# Altium footprint library Altera.PcbLib: 6 footprints (part 1 of 6)
Each footprint in its own frame and in the unit in brackets; x right, y up, seen from the top. Pads: shape width x height; smd on the part's side, far side on the other; paste and mask are expansions set on the pad; w line width, h text height; cw(c..) or ccw(c..) is an arc to the next point about the centre after c.
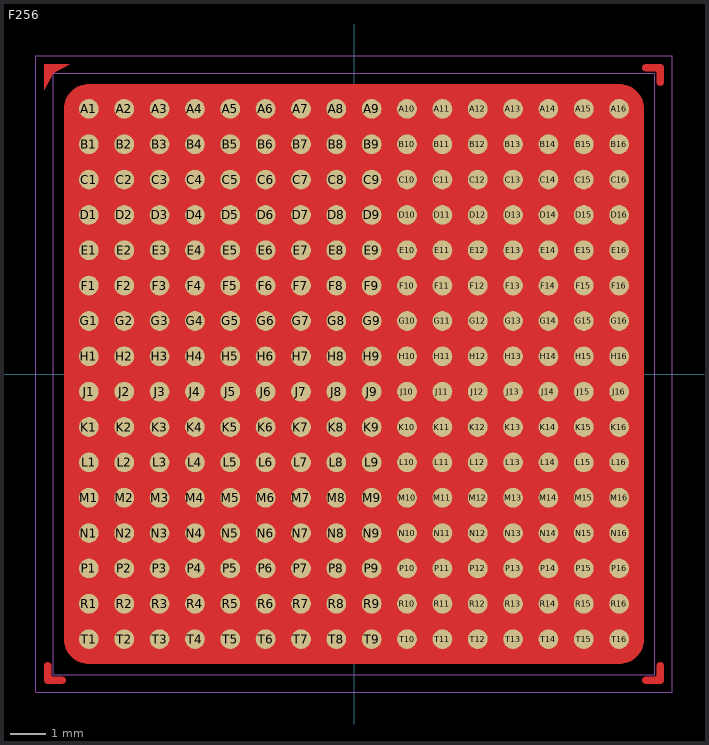
[diagram p0: the footprint, top view; thin cyan lines are the x and y axes]

## F256 [mil]
pads (256):
  round 22 smd mask+2: A1(-295.28,295.28) A2(-255.91,295.28) A3(-216.54,295.28) A4(-177.17,295.28) A5(-137.8,295.28) A6(-98.43,295.28) A7(-59.06,295.28) A8(-19.68,295.28) A9(19.69,295.28) A10(59.06,295.28) A11(98.43,295.28) A12(137.8,295.28) A13(177.17,295.28) A14(216.54,295.28) A15(255.91,295.28) A16(295.28,295.28) B1(-295.28,255.91) B2(-255.91,255.91) B3(-216.54,255.91) B4(-177.17,255.91) B5(-137.8,255.91) B6(-98.43,255.91) B7(-59.06,255.91) B8(-19.68,255.91) B9(19.69,255.91) B10(59.06,255.91) B11(98.43,255.91) B12(137.8,255.91) B13(177.17,255.91) B14(216.54,255.91) B15(255.91,255.91) B16(295.28,255.91) C1(-295.28,216.54) C2(-255.91,216.54) C3(-216.54,216.54) C4(-177.17,216.54) C5(-137.8,216.54) C6(-98.43,216.54) C7(-59.06,216.54) C8(-19.68,216.54) C9(19.69,216.54) C10(59.06,216.54) C11(98.43,216.54) C12(137.8,216.54) C13(177.17,216.54) C14(216.54,216.54) C15(255.91,216.54) C16(295.28,216.54) D1(-295.28,177.17) D2(-255.91,177.17) D3(-216.54,177.17) D4(-177.17,177.17) D5(-137.8,177.17) D6(-98.43,177.17) D7(-59.06,177.17) D8(-19.68,177.17) D9(19.69,177.17) D10(59.06,177.17) D11(98.43,177.17) D12(137.8,177.17) D13(177.17,177.17) D14(216.54,177.17) D15(255.91,177.17) D16(295.28,177.17) E1(-295.28,137.8) E2(-255.91,137.8) E3(-216.54,137.8) E4(-177.17,137.8) E5(-137.8,137.8) E6(-98.43,137.8) E7(-59.06,137.8) E8(-19.68,137.8) E9(19.69,137.8) E10(59.06,137.8) E11(98.43,137.8) E12(137.8,137.8) E13(177.17,137.8) E14(216.54,137.8) E15(255.91,137.8) E16(295.28,137.8) F1(-295.28,98.43) F2(-255.91,98.43) F3(-216.54,98.43) F4(-177.17,98.43) F5(-137.8,98.43) F6(-98.43,98.43) F7(-59.06,98.43) F8(-19.68,98.43) F9(19.69,98.43) F10(59.06,98.43) F11(98.43,98.43) F12(137.8,98.43) F13(177.17,98.43) F14(216.54,98.43) F15(255.91,98.43) F16(295.28,98.43) G1(-295.28,59.06) G2(-255.91,59.06) G3(-216.54,59.06) G4(-177.17,59.06) G5(-137.8,59.06) G6(-98.43,59.06) G7(-59.06,59.06) G8(-19.68,59.06) G9(19.69,59.06) G10(59.06,59.06) G11(98.43,59.06) G12(137.8,59.06) G13(177.17,59.06) G14(216.54,59.06) G15(255.91,59.06) G16(295.28,59.06) H1(-295.28,19.69) H2(-255.91,19.69) H3(-216.54,19.69) H4(-177.17,19.69) H5(-137.8,19.69) H6(-98.43,19.69) H7(-59.06,19.69) H8(-19.68,19.69) H9(19.69,19.69) H10(59.06,19.69) H11(98.43,19.69) H12(137.8,19.69) H13(177.17,19.69) H14(216.54,19.69) H15(255.91,19.69) H16(295.28,19.69) J1(-295.28,-19.68) J2(-255.91,-19.68) J3(-216.54,-19.68) J4(-177.17,-19.68) J5(-137.8,-19.68) J6(-98.43,-19.68) J7(-59.06,-19.68) J8(-19.68,-19.68) J9(19.69,-19.68) J10(59.06,-19.68) J11(98.43,-19.68) J12(137.8,-19.68) J13(177.17,-19.68) J14(216.54,-19.68) J15(255.91,-19.68) J16(295.28,-19.68) K1(-295.28,-59.06) K2(-255.91,-59.06) K3(-216.54,-59.06) K4(-177.17,-59.06) K5(-137.8,-59.06) K6(-98.43,-59.06) K7(-59.06,-59.06) K8(-19.68,-59.06) K9(19.69,-59.06) K10(59.06,-59.06) K11(98.43,-59.06) K12(137.8,-59.06) K13(177.17,-59.06) K14(216.54,-59.06) K15(255.91,-59.06) K16(295.28,-59.06) L1(-295.28,-98.43) L2(-255.91,-98.43) L3(-216.54,-98.43) L4(-177.17,-98.43) L5(-137.8,-98.43) L6(-98.43,-98.43) L7(-59.06,-98.43) L8(-19.68,-98.43) L9(19.69,-98.43) L10(59.06,-98.43) L11(98.43,-98.43) L12(137.8,-98.43) L13(177.17,-98.43) L14(216.54,-98.43) L15(255.91,-98.43) L16(295.28,-98.43) M1(-295.28,-137.8) M2(-255.91,-137.8) M3(-216.54,-137.8) M4(-177.17,-137.8) M5(-137.8,-137.8) M6(-98.43,-137.8) M7(-59.06,-137.8) M8(-19.68,-137.8) M9(19.69,-137.8) M10(59.06,-137.8) M11(98.43,-137.8) M12(137.8,-137.8) M13(177.17,-137.8) M14(216.54,-137.8) M15(255.91,-137.8) M16(295.28,-137.8) N1(-295.28,-177.17) N2(-255.91,-177.17) N3(-216.54,-177.17) N4(-177.17,-177.17) N5(-137.8,-177.17) N6(-98.43,-177.17) N7(-59.06,-177.17) N8(-19.68,-177.17) N9(19.69,-177.17) N10(59.06,-177.17) N11(98.43,-177.17) N12(137.8,-177.17) N13(177.17,-177.17) N14(216.54,-177.17) N15(255.91,-177.17) N16(295.28,-177.17) P1(-295.28,-216.54) P2(-255.91,-216.54) P3(-216.54,-216.54) P4(-177.17,-216.54) P5(-137.8,-216.54) P6(-98.43,-216.54) P7(-59.06,-216.54) P8(-19.68,-216.54) P9(19.69,-216.54) P10(59.06,-216.54) P11(98.43,-216.54) P12(137.8,-216.54) P13(177.17,-216.54) P14(216.54,-216.54) P15(255.91,-216.54) P16(295.28,-216.54) R1(-295.28,-255.91) R2(-255.91,-255.91) R3(-216.54,-255.91) R4(-177.17,-255.91) R5(-137.8,-255.91) R6(-98.43,-255.91) R7(-59.06,-255.91) R8(-19.68,-255.91) R9(19.69,-255.91) R10(59.06,-255.91) R11(98.43,-255.91) R12(137.8,-255.91) R13(177.17,-255.91) R14(216.54,-255.91) R15(255.91,-255.91) R16(295.28,-255.91) T1(-295.28,-295.28) T2(-255.91,-295.28) T3(-216.54,-295.28) T4(-177.17,-295.28) T5(-137.8,-295.28) T6(-98.43,-295.28) T7(-59.06,-295.28) T8(-19.68,-295.28) T9(19.69,-295.28) T10(59.06,-295.28) T11(98.43,-295.28) T12(137.8,-295.28) T13(177.17,-295.28) T14(216.54,-295.28) T15(255.91,-295.28) T16(295.28,-295.28)
Top Layer:
  region: 337.11,325.11 337.11,324.31 337.72,322.84 338.84,321.72 340.31,321.11 341.11,321.11 341.9,321.11 343.38,321.72 344.5,322.84 345.11,324.31 345.11,325.11 345.11,341.11 345.11,341.91 344.5,343.38 343.38,344.5 341.9,345.11 341.11,345.11 325.11,345.11 324.31,345.11 322.84,344.5 321.72,343.38 321.11,341.91 321.11,341.11 321.11,340.31 321.72,338.84 322.84,337.72 324.31,337.11 325.11,337.11 335.11,337.11 335.5,337.07 336.22,336.77 336.77,336.22 337.07,335.5 337.11,335.11
  region: 325.11,-337.11 324.31,-337.11 322.84,-337.72 321.72,-338.84 321.11,-340.31 321.11,-341.11 321.11,-341.91 321.72,-343.38 322.84,-344.5 324.31,-345.11 325.11,-345.11 341.11,-345.11 341.91,-345.11 343.38,-344.5 344.5,-343.38 345.11,-341.91 345.11,-341.11 345.11,-325.11 345.11,-324.31 344.5,-322.84 343.38,-321.72 341.91,-321.11 341.11,-321.11 340.31,-321.11 338.84,-321.72 337.72,-322.84 337.11,-324.31 337.11,-325.11 337.11,-335.11 337.07,-335.5 336.77,-336.22 336.22,-336.77 335.5,-337.07 335.11,-337.11
  region: -337.11,-325.11 -337.11,-324.31 -337.72,-322.84 -338.84,-321.72 -340.31,-321.11 -341.11,-321.11 -341.9,-321.11 -343.38,-321.72 -344.5,-322.84 -345.11,-324.31 -345.11,-325.11 -345.11,-341.11 -345.11,-341.91 -344.5,-343.38 -343.38,-344.5 -341.9,-345.11 -341.11,-345.11 -325.11,-345.11 -324.31,-345.11 -322.84,-344.5 -321.72,-343.38 -321.11,-341.91 -321.11,-341.11 -321.11,-340.31 -321.72,-338.84 -322.84,-337.72 -324.31,-337.11 -325.11,-337.11 -335.11,-337.11 -335.5,-337.07 -336.22,-336.77 -336.77,-336.22 -337.07,-335.5 -337.11,-335.11
  pour cut-out: -322.83,295.28 -322.83,-295.28 -322.83,-297.99 -321.78,-303.31 -319.7,-308.33 -316.68,-312.84 -312.84,-316.68 -308.33,-319.7 -303.31,-321.78 -297.99,-322.83 -295.28,-322.83 295.28,-322.84 297.99,-322.84 303.31,-321.78 308.33,-319.7 312.84,-316.68 316.68,-312.84 319.7,-308.33 321.78,-303.31 322.83,-297.99 322.83,-295.28 322.84,295.28 322.84,297.99 321.78,303.31 319.7,308.33 316.68,312.84 312.84,316.68 308.33,319.7 303.32,321.78 297.99,322.83 295.28,322.83 -295.28,322.83 -297.99,322.83 -303.31,321.78 -308.33,319.7 -312.84,316.68 -316.68,312.84 -319.7,308.33 -321.78,303.31 -322.83,297.99
  region: -345.11,345.11 -345.11,316.57 -334.65,334.65 -316.57,345.11
Top Courtyard:
  lines w1: -354.33,-354.33 354.33,-354.33 354.33,354.33 -354.33,354.33 -354.33,-354.33
Top Component Outline:
  lines w1: -334.65,-334.65 334.65,-334.65 334.65,334.65 -334.65,334.65 -334.65,-334.65
3D body: height 20.81, standoff -2.81, extent -267.63,-307.24 -244.18,-283.62
3D body: height 20.81, standoff -2.81, extent -267.63,-267.87 -244.18,-244.25
3D body: height 20.81, standoff -2.81, extent -307,-267.87 -283.55,-244.25
3D body: height 20.81, standoff -2.81, extent -307,-307.24 -283.55,-283.62
3D body: height 20.81, standoff -2.81, extent -267.63,-228.5 -244.18,-204.88
3D body: height 20.81, standoff -2.81, extent -267.63,-189.13 -244.18,-165.51
3D body: height 20.81, standoff -2.81, extent -307,-189.13 -283.55,-165.51
3D body: height 20.81, standoff -2.81, extent -307,-228.5 -283.55,-204.88
3D body: height 20.81, standoff -2.81, extent -267.63,-149.76 -244.18,-126.14
3D body: height 20.81, standoff -2.81, extent -267.63,-110.39 -244.18,-86.77
3D body: height 20.81, standoff -2.81, extent -307,-110.39 -283.55,-86.77
3D body: height 20.81, standoff -2.81, extent -307,-149.76 -283.55,-126.14
3D body: height 20.81, standoff -2.81, extent -267.63,-71.02 -244.18,-47.4
3D body: height 20.81, standoff -2.81, extent -267.63,-31.65 -244.18,-8.03
3D body: height 20.81, standoff -2.81, extent -307,-31.65 -283.55,-8.03
3D body: height 20.81, standoff -2.81, extent -307,-71.02 -283.55,-47.4
3D body: height 20.81, standoff -2.81, extent -267.63,7.72 -244.18,31.34
3D body: height 20.81, standoff -2.81, extent -267.63,47.09 -244.18,70.71
3D body: height 20.81, standoff -2.81, extent -307,47.09 -283.55,70.71
3D body: height 20.81, standoff -2.81, extent -307,7.72 -283.55,31.34
3D body: height 20.81, standoff -2.81, extent -267.63,86.46 -244.18,110.08
3D body: height 20.81, standoff -2.81, extent -267.63,125.83 -244.18,149.45
3D body: height 20.81, standoff -2.81, extent -307,125.83 -283.55,149.45
3D body: height 20.81, standoff -2.81, extent -307,86.46 -283.55,110.08
3D body: height 20.81, standoff -2.81, extent -267.63,204.57 -244.18,228.19
3D body: height 20.81, standoff -2.81, extent -267.63,165.2 -244.18,188.82
3D body: height 20.81, standoff -2.81, extent -307,165.2 -283.55,188.82
3D body: height 20.81, standoff -2.81, extent -307,204.57 -283.55,228.19
3D body: height 20.81, standoff -2.81, extent -267.63,283.31 -244.18,306.93
3D body: height 20.81, standoff -2.81, extent -267.63,243.94 -244.18,267.56
3D body: height 20.81, standoff -2.81, extent -307,243.94 -283.55,267.56
3D body: height 20.81, standoff -2.81, extent -307,283.31 -283.55,306.93
3D body: height 20.81, standoff -2.81, extent -188.89,-307.24 -165.44,-283.62
3D body: height 20.81, standoff -2.81, extent -188.89,-267.87 -165.44,-244.25
3D body: height 20.81, standoff -2.81, extent -228.26,-307.24 -204.81,-283.62
3D body: height 20.81, standoff -2.81, extent -228.26,-267.87 -204.81,-244.25
3D body: height 20.81, standoff -2.81, extent -188.89,-228.5 -165.44,-204.88
3D body: height 20.81, standoff -2.81, extent -188.89,-189.13 -165.44,-165.51
3D body: height 20.81, standoff -2.81, extent -228.26,-228.5 -204.81,-204.88
3D body: height 20.81, standoff -2.81, extent -228.26,-189.13 -204.81,-165.51
3D body: height 20.81, standoff -2.81, extent -188.89,-149.76 -165.44,-126.14
3D body: height 20.81, standoff -2.81, extent -188.89,-110.39 -165.44,-86.77
3D body: height 20.81, standoff -2.81, extent -228.26,-149.76 -204.81,-126.14
3D body: height 20.81, standoff -2.81, extent -228.26,-110.39 -204.81,-86.77
3D body: height 20.81, standoff -2.81, extent -188.89,-71.02 -165.44,-47.4
3D body: height 20.81, standoff -2.81, extent -188.89,-31.65 -165.44,-8.03
3D body: height 20.81, standoff -2.81, extent -228.26,-71.02 -204.81,-47.4
3D body: height 20.81, standoff -2.81, extent -228.26,-31.65 -204.81,-8.03
3D body: height 20.81, standoff -2.81, extent -188.89,7.72 -165.44,31.34
3D body: height 20.81, standoff -2.81, extent -188.89,47.09 -165.44,70.71
3D body: height 20.81, standoff -2.81, extent -228.26,7.72 -204.81,31.34
3D body: height 20.81, standoff -2.81, extent -228.26,47.09 -204.81,70.71
3D body: height 20.81, standoff -2.81, extent -188.89,86.46 -165.44,110.08
3D body: height 20.81, standoff -2.81, extent -188.89,125.83 -165.44,149.45
3D body: height 20.81, standoff -2.81, extent -228.26,86.46 -204.81,110.08
3D body: height 20.81, standoff -2.81, extent -228.26,125.83 -204.81,149.45
3D body: height 20.81, standoff -2.81, extent -188.89,204.57 -165.44,228.19
3D body: height 20.81, standoff -2.81, extent -188.89,165.2 -165.44,188.82
3D body: height 20.81, standoff -2.81, extent -228.26,204.57 -204.81,228.19
3D body: height 20.81, standoff -2.81, extent -228.26,165.2 -204.81,188.82
3D body: height 20.81, standoff -2.81, extent -188.89,283.31 -165.44,306.93
3D body: height 20.81, standoff -2.81, extent -188.89,243.94 -165.44,267.56
3D body: height 20.81, standoff -2.81, extent -228.26,283.31 -204.81,306.93
3D body: height 20.81, standoff -2.81, extent -228.26,243.94 -204.81,267.56
3D body: height 20.81, standoff -2.81, extent -110.15,-307.24 -86.7,-283.62
3D body: height 20.81, standoff -2.81, extent -110.15,-267.87 -86.7,-244.25
3D body: height 20.81, standoff -2.81, extent -149.52,-307.24 -126.07,-283.62
3D body: height 20.81, standoff -2.81, extent -149.52,-267.87 -126.07,-244.25
3D body: height 20.81, standoff -2.81, extent -110.15,-228.5 -86.7,-204.88
3D body: height 20.81, standoff -2.81, extent -110.15,-189.13 -86.7,-165.51
3D body: height 20.81, standoff -2.81, extent -149.52,-228.5 -126.07,-204.88
3D body: height 20.81, standoff -2.81, extent -149.52,-189.13 -126.07,-165.51
3D body: height 20.81, standoff -2.81, extent -110.15,-149.76 -86.7,-126.14
3D body: height 20.81, standoff -2.81, extent -110.15,-110.39 -86.7,-86.77
3D body: height 20.81, standoff -2.81, extent -149.52,-149.76 -126.07,-126.14
3D body: height 20.81, standoff -2.81, extent -149.52,-110.39 -126.07,-86.77
3D body: height 20.81, standoff -2.81, extent -110.15,-71.02 -86.7,-47.4
3D body: height 20.81, standoff -2.81, extent -110.15,-31.65 -86.7,-8.03
3D body: height 20.81, standoff -2.81, extent -149.52,-71.02 -126.07,-47.4
3D body: height 20.81, standoff -2.81, extent -149.52,-31.65 -126.07,-8.03
3D body: height 20.81, standoff -2.81, extent -110.15,7.72 -86.7,31.34
3D body: height 20.81, standoff -2.81, extent -110.15,47.09 -86.7,70.71
3D body: height 20.81, standoff -2.81, extent -149.52,7.72 -126.07,31.34
3D body: height 20.81, standoff -2.81, extent -149.52,47.09 -126.07,70.71
3D body: height 20.81, standoff -2.81, extent -110.15,86.46 -86.7,110.08
3D body: height 20.81, standoff -2.81, extent -110.15,125.83 -86.7,149.45
3D body: height 20.81, standoff -2.81, extent -149.52,86.46 -126.07,110.08
3D body: height 20.81, standoff -2.81, extent -149.52,125.83 -126.07,149.45
3D body: height 20.81, standoff -2.81, extent -110.15,204.57 -86.7,228.19
3D body: height 20.81, standoff -2.81, extent -110.15,165.2 -86.7,188.82
3D body: height 20.81, standoff -2.81, extent -149.52,204.57 -126.07,228.19
3D body: height 20.81, standoff -2.81, extent -149.52,165.2 -126.07,188.82
3D body: height 20.81, standoff -2.81, extent -110.15,283.31 -86.7,306.93
3D body: height 20.81, standoff -2.81, extent -110.15,243.94 -86.7,267.56
3D body: height 20.81, standoff -2.81, extent -149.52,283.31 -126.07,306.93
3D body: height 20.81, standoff -2.81, extent -149.52,243.94 -126.07,267.56
3D body: height 20.81, standoff -2.81, extent -31.41,-307.24 -7.96,-283.62
3D body: height 20.81, standoff -2.81, extent -31.41,-267.87 -7.96,-244.25
3D body: height 20.81, standoff -2.81, extent -70.78,-307.24 -47.33,-283.62
3D body: height 20.81, standoff -2.81, extent -70.78,-267.87 -47.33,-244.25
3D body: height 20.81, standoff -2.81, extent -31.41,-228.5 -7.96,-204.88
3D body: height 20.81, standoff -2.81, extent -31.41,-189.13 -7.96,-165.51
3D body: height 20.81, standoff -2.81, extent -70.78,-228.5 -47.33,-204.88
3D body: height 20.81, standoff -2.81, extent -70.78,-189.13 -47.33,-165.51
3D body: height 20.81, standoff -2.81, extent -31.41,-149.76 -7.96,-126.14
3D body: height 20.81, standoff -2.81, extent -31.41,-110.39 -7.96,-86.77
3D body: height 20.81, standoff -2.81, extent -70.78,-149.76 -47.33,-126.14
3D body: height 20.81, standoff -2.81, extent -70.78,-110.39 -47.33,-86.77
3D body: height 20.81, standoff -2.81, extent -31.41,-71.02 -7.96,-47.4
3D body: height 20.81, standoff -2.81, extent -31.41,-31.65 -7.96,-8.03
3D body: height 20.81, standoff -2.81, extent -70.78,-71.02 -47.33,-47.4
3D body: height 20.81, standoff -2.81, extent -70.78,-31.65 -47.33,-8.03
3D body: height 20.81, standoff -2.81, extent -31.41,7.72 -7.96,31.34
3D body: height 20.81, standoff -2.81, extent -31.41,47.09 -7.96,70.71
3D body: height 20.81, standoff -2.81, extent -70.78,7.72 -47.33,31.34
3D body: height 20.81, standoff -2.81, extent -70.78,47.09 -47.33,70.71
3D body: height 20.81, standoff -2.81, extent -31.41,86.46 -7.96,110.08
3D body: height 20.81, standoff -2.81, extent -31.41,125.83 -7.96,149.45
3D body: height 20.81, standoff -2.81, extent -70.78,86.46 -47.33,110.08
3D body: height 20.81, standoff -2.81, extent -70.78,125.83 -47.33,149.45
3D body: height 20.81, standoff -2.81, extent -31.41,204.57 -7.96,228.19
3D body: height 20.81, standoff -2.81, extent -31.41,165.2 -7.96,188.82
3D body: height 20.81, standoff -2.81, extent -70.78,204.57 -47.33,228.19
3D body: height 20.81, standoff -2.81, extent -70.78,165.2 -47.33,188.82
3D body: height 20.81, standoff -2.81, extent -31.41,283.31 -7.96,306.93
3D body: height 20.81, standoff -2.81, extent -31.41,243.94 -7.96,267.56
3D body: height 20.81, standoff -2.81, extent -70.78,283.31 -47.33,306.93
3D body: height 20.81, standoff -2.81, extent -70.78,243.94 -47.33,267.56
3D body: height 20.81, standoff -2.81, extent 7.96,-267.87 31.41,-244.25
3D body: height 20.81, standoff -2.81, extent 7.96,-307.24 31.41,-283.62
3D body: height 20.81, standoff -2.81, extent 47.33,-267.87 70.78,-244.25
3D body: height 20.81, standoff -2.81, extent 47.33,-307.24 70.78,-283.62
3D body: height 20.81, standoff -2.81, extent 7.96,-189.13 31.41,-165.51
3D body: height 20.81, standoff -2.81, extent 7.96,-228.5 31.41,-204.88
3D body: height 20.81, standoff -2.81, extent 47.33,-189.13 70.78,-165.51
3D body: height 20.81, standoff -2.81, extent 47.33,-228.5 70.78,-204.88
3D body: height 20.81, standoff -2.81, extent 7.96,-110.39 31.41,-86.77
3D body: height 20.81, standoff -2.81, extent 7.96,-149.76 31.41,-126.14
3D body: height 20.81, standoff -2.81, extent 47.33,-110.39 70.78,-86.77
3D body: height 20.81, standoff -2.81, extent 47.33,-149.76 70.78,-126.14
3D body: height 20.81, standoff -2.81, extent 7.96,-31.65 31.41,-8.03
3D body: height 20.81, standoff -2.81, extent 7.96,-71.02 31.41,-47.4
3D body: height 20.81, standoff -2.81, extent 47.33,-31.65 70.78,-8.03
3D body: height 20.81, standoff -2.81, extent 47.33,-71.02 70.78,-47.4
3D body: height 20.81, standoff -2.81, extent 7.96,47.09 31.41,70.71
3D body: height 20.81, standoff -2.81, extent 7.96,7.72 31.41,31.34
3D body: height 20.81, standoff -2.81, extent 47.33,47.09 70.78,70.71
3D body: height 20.81, standoff -2.81, extent 47.33,7.72 70.78,31.34
3D body: height 20.81, standoff -2.81, extent 7.96,125.83 31.41,149.45
3D body: height 20.81, standoff -2.81, extent 7.96,86.46 31.41,110.08
3D body: height 20.81, standoff -2.81, extent 47.33,125.83 70.78,149.45
3D body: height 20.81, standoff -2.81, extent 47.33,86.46 70.78,110.08
3D body: height 20.81, standoff -2.81, extent 7.96,165.2 31.41,188.82
3D body: height 20.81, standoff -2.81, extent 7.96,204.57 31.41,228.19
3D body: height 20.81, standoff -2.81, extent 47.33,165.2 70.78,188.82
3D body: height 20.81, standoff -2.81, extent 47.33,204.57 70.78,228.19
3D body: height 20.81, standoff -2.81, extent 7.96,243.94 31.41,267.56
3D body: height 20.81, standoff -2.81, extent 7.96,283.31 31.41,306.93
3D body: height 20.81, standoff -2.81, extent 47.33,243.94 70.78,267.56
3D body: height 20.81, standoff -2.81, extent 47.33,283.31 70.78,306.93
3D body: height 20.81, standoff -2.81, extent 86.7,-267.87 110.15,-244.25
3D body: height 20.81, standoff -2.81, extent 86.7,-307.24 110.15,-283.62
3D body: height 20.81, standoff -2.81, extent 126.07,-267.87 149.52,-244.25
3D body: height 20.81, standoff -2.81, extent 126.07,-307.24 149.52,-283.62
3D body: height 20.81, standoff -2.81, extent 86.7,-189.13 110.15,-165.51
3D body: height 20.81, standoff -2.81, extent 86.7,-228.5 110.15,-204.88
3D body: height 20.81, standoff -2.81, extent 126.07,-189.13 149.52,-165.51
3D body: height 20.81, standoff -2.81, extent 126.07,-228.5 149.52,-204.88
3D body: height 20.81, standoff -2.81, extent 86.7,-110.39 110.15,-86.77
3D body: height 20.81, standoff -2.81, extent 86.7,-149.76 110.15,-126.14
3D body: height 20.81, standoff -2.81, extent 126.07,-110.39 149.52,-86.77
3D body: height 20.81, standoff -2.81, extent 126.07,-149.76 149.52,-126.14
3D body: height 20.81, standoff -2.81, extent 86.7,-31.65 110.15,-8.03
3D body: height 20.81, standoff -2.81, extent 86.7,-71.02 110.15,-47.4
3D body: height 20.81, standoff -2.81, extent 126.07,-31.65 149.52,-8.03
3D body: height 20.81, standoff -2.81, extent 126.07,-71.02 149.52,-47.4
3D body: height 20.81, standoff -2.81, extent 86.7,47.09 110.15,70.71
3D body: height 20.81, standoff -2.81, extent 86.7,7.72 110.15,31.34
3D body: height 20.81, standoff -2.81, extent 126.07,47.09 149.52,70.71
3D body: height 20.81, standoff -2.81, extent 126.07,7.72 149.52,31.34
3D body: height 20.81, standoff -2.81, extent 86.7,125.83 110.15,149.45
3D body: height 20.81, standoff -2.81, extent 86.7,86.46 110.15,110.08
3D body: height 20.81, standoff -2.81, extent 126.07,125.83 149.52,149.45
3D body: height 20.81, standoff -2.81, extent 126.07,86.46 149.52,110.08
3D body: height 20.81, standoff -2.81, extent 86.7,165.2 110.15,188.82
3D body: height 20.81, standoff -2.81, extent 86.7,204.57 110.15,228.19
3D body: height 20.81, standoff -2.81, extent 126.07,165.2 149.52,188.82
3D body: height 20.81, standoff -2.81, extent 126.07,204.57 149.52,228.19
3D body: height 20.81, standoff -2.81, extent 86.7,243.94 110.15,267.56
3D body: height 20.81, standoff -2.81, extent 86.7,283.31 110.15,306.93
3D body: height 20.81, standoff -2.81, extent 126.07,243.94 149.52,267.56
3D body: height 20.81, standoff -2.81, extent 126.07,283.31 149.52,306.93
3D body: height 20.81, standoff -2.81, extent 165.44,-267.87 188.89,-244.25
3D body: height 20.81, standoff -2.81, extent 165.44,-307.24 188.89,-283.62
3D body: height 20.81, standoff -2.81, extent 204.81,-267.87 228.26,-244.25
3D body: height 20.81, standoff -2.81, extent 204.81,-307.24 228.26,-283.62
3D body: height 20.81, standoff -2.81, extent 165.44,-189.13 188.89,-165.51
3D body: height 20.81, standoff -2.81, extent 165.44,-228.5 188.89,-204.88
3D body: height 20.81, standoff -2.81, extent 204.81,-189.13 228.26,-165.51
3D body: height 20.81, standoff -2.81, extent 204.81,-228.5 228.26,-204.88
3D body: height 20.81, standoff -2.81, extent 165.44,-110.39 188.89,-86.77
3D body: height 20.81, standoff -2.81, extent 165.44,-149.76 188.89,-126.14
3D body: height 20.81, standoff -2.81, extent 204.81,-110.39 228.26,-86.77
3D body: height 20.81, standoff -2.81, extent 204.81,-149.76 228.26,-126.14
3D body: height 20.81, standoff -2.81, extent 165.44,-31.65 188.89,-8.03
3D body: height 20.81, standoff -2.81, extent 165.44,-71.02 188.89,-47.4
3D body: height 20.81, standoff -2.81, extent 204.81,-31.65 228.26,-8.03
3D body: height 20.81, standoff -2.81, extent 204.81,-71.02 228.26,-47.4
3D body: height 20.81, standoff -2.81, extent 165.44,47.09 188.89,70.71
3D body: height 20.81, standoff -2.81, extent 165.44,7.72 188.89,31.34
3D body: height 20.81, standoff -2.81, extent 204.81,47.09 228.26,70.71
3D body: height 20.81, standoff -2.81, extent 204.81,7.72 228.26,31.34
3D body: height 20.81, standoff -2.81, extent 165.44,125.83 188.89,149.45
3D body: height 20.81, standoff -2.81, extent 165.44,86.46 188.89,110.08
3D body: height 20.81, standoff -2.81, extent 204.81,125.83 228.26,149.45
3D body: height 20.81, standoff -2.81, extent 204.81,86.46 228.26,110.08
3D body: height 20.81, standoff -2.81, extent 165.44,165.2 188.89,188.82
3D body: height 20.81, standoff -2.81, extent 165.44,204.57 188.89,228.19
3D body: height 20.81, standoff -2.81, extent 204.81,165.2 228.26,188.82
3D body: height 20.81, standoff -2.81, extent 204.81,204.57 228.26,228.19
3D body: height 20.81, standoff -2.81, extent 165.44,243.94 188.89,267.56
3D body: height 20.81, standoff -2.81, extent 165.44,283.31 188.89,306.93
3D body: height 20.81, standoff -2.81, extent 204.81,243.94 228.26,267.56
3D body: height 20.81, standoff -2.81, extent 204.81,283.31 228.26,306.93
3D body: height 20.81, standoff -2.81, extent 244.18,-307.24 267.63,-283.62
3D body: height 20.81, standoff -2.81, extent 244.18,-267.87 267.63,-244.25
3D body: height 20.81, standoff -2.81, extent 283.55,-267.87 307,-244.25
3D body: height 20.81, standoff -2.81, extent 283.55,-307.24 307,-283.62
3D body: height 20.81, standoff -2.81, extent 244.18,-228.5 267.63,-204.88
3D body: height 20.81, standoff -2.81, extent 244.18,-189.13 267.63,-165.51
3D body: height 20.81, standoff -2.81, extent 283.55,-189.13 307,-165.51
3D body: height 20.81, standoff -2.81, extent 283.55,-228.5 307,-204.88
3D body: height 20.81, standoff -2.81, extent 244.18,-149.76 267.63,-126.14
3D body: height 20.81, standoff -2.81, extent 244.18,-110.39 267.63,-86.77
3D body: height 20.81, standoff -2.81, extent 283.55,-110.39 307,-86.77
3D body: height 20.81, standoff -2.81, extent 283.55,-149.76 307,-126.14
3D body: height 20.81, standoff -2.81, extent 244.18,-71.02 267.63,-47.4
3D body: height 20.81, standoff -2.81, extent 244.18,-31.65 267.63,-8.03
3D body: height 20.81, standoff -2.81, extent 283.55,-31.65 307,-8.03
3D body: height 20.81, standoff -2.81, extent 283.55,-71.02 307,-47.4
3D body: height 20.81, standoff -2.81, extent 244.18,7.72 267.63,31.34
3D body: height 20.81, standoff -2.81, extent 244.18,47.09 267.63,70.71
3D body: height 20.81, standoff -2.81, extent 283.55,47.09 307,70.71
3D body: height 20.81, standoff -2.81, extent 283.55,7.72 307,31.34
3D body: height 20.81, standoff -2.81, extent 244.18,86.46 267.63,110.08
3D body: height 20.81, standoff -2.81, extent 244.18,125.83 267.63,149.45
3D body: height 20.81, standoff -2.81, extent 283.55,125.83 307,149.45
3D body: height 20.81, standoff -2.81, extent 283.55,86.46 307,110.08
3D body: height 20.81, standoff -2.81, extent 244.18,204.57 267.63,228.19
3D body: height 20.81, standoff -2.81, extent 244.18,165.2 267.63,188.82
3D body: height 20.81, standoff -2.81, extent 283.55,165.2 307,188.82
3D body: height 20.81, standoff -2.81, extent 283.55,204.57 307,228.19
3D body: height 20.81, standoff -2.81, extent 244.18,283.31 267.63,306.93
3D body: height 20.81, standoff -2.81, extent 244.18,243.94 267.63,267.56
3D body: height 20.81, standoff -2.81, extent 283.55,243.94 307,267.56
3D body: height 20.81, standoff -2.81, extent 283.55,283.31 307,306.93
3D body: height 57.09, standoff 19.68, extent -334.65,-334.65 334.65,334.65